# EAGLE library part PIC10F2XX (library 000001)
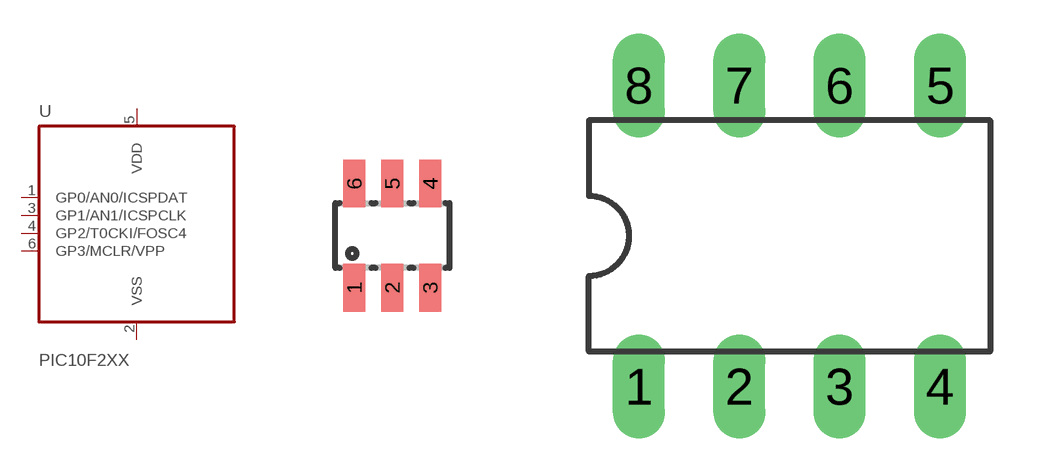
[diagram p0: symbol with the pads of SOT23-6L; footprints SOT23-6L, DIL08]

Designator prefix -

## PIC10F2XXOT  [SOT23-6L]
1  GP0/AN0/ICSPDAT
2  VSS  pwr
3  GP1/AN1/ICSPCLK
4  GP2/T0CKI/FOSC4
5  VDD  pwr
6  GP3/MCLR/VPP

## PIC10F2XXP  [DIL08]
2  VDD  pwr
3  GP2/T0CKI/FOSC4
4  GP1/AN1/ICSPCLK
5  GP0/AN0/ICSPDAT
7  VSS  pwr
8  GP3/MCLR/VPP

## Footprint SOT23-6L (pad centres in mm)
Small Outline Transistor
smd 0.55 x 1.2: 1 -0.95,-1.3; 2 0,-1.3; 3 0.95,-1.3; 4 0.95,1.3; 5 0,1.3; 6 -0.95,1.3

## Footprint DIL08 (pad centres in mm)
Dual In Line Package
drill 0.813 long: 1 -3.81,-3.81; 2 -1.27,-3.81; 3 1.27,-3.81; 4 3.81,-3.81; 5 3.81,3.81; 6 1.27,3.81; 7 -1.27,3.81; 8 -3.81,3.81